# Altium schematic symbol library 2020-10-16_08-36-01.SchLib: 2 symbols
Pins are listed as number, name and electrical type; pins without a type are passive.

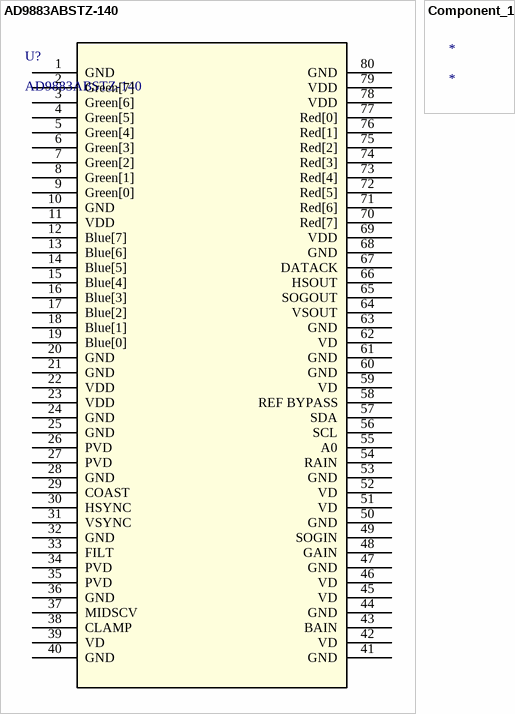
[diagram p0: symbols AD9883ABSTZ-140 to Component_1]

## AD9883ABSTZ-140
designator U?
No Description Available; Built_By: EMA_UL_Team; Vendor: Analog Devices Inc; SourceLibrary: Analog_2012-01-01_6; Manufacturer_Part_Number: AD9883ABSTZ-140; Copyright: Copyright (C) 2018 Accelerated Designs. All rights reserved; RefDes: RefDes; Type: DEV
footprint ST_80_2_ADI
pins: 1 GND, 2 Green[7], 3 Green[6], 4 Green[5], 5 Green[4], 6 Green[3], 7 Green[2], 8 Green[1], 9 Green[0], 10 GND, 11 VDD (power), 12 Blue[7], 13 Blue[6], 14 Blue[5], 15 Blue[4], 16 Blue[3], 17 Blue[2], 18 Blue[1], 19 Blue[0], 20 GND, 21 GND, 22 VDD (power), 23 VDD (power), 24 GND, 25 GND, 26 PVD (power), 27 PVD (power), 28 GND, 29 COAST, 30 HSYNC, 31 VSYNC, 32 GND, 33 FILT, 34 PVD (power), 35 PVD (power), 36 GND, 37 MIDSCV, 38 CLAMP, 39 VD (power), 40 GND, 41 GND, 42 VD (power), 43 BAIN, 44 GND, 45 VD (power), 46 VD (power), 47 GND, 48 GAIN, 49 SOGIN, 50 GND, 51 VD (power), 52 VD (power), 53 GND, 54 RAIN, 55 A0, 56 SCL, 57 SDA, 58 REF BYPASS, 59 VD (power), 60 GND, 61 GND, 62 VD (power), 63 GND, 64 VSOUT, 65 SOGOUT, 66 HSOUT, 67 DATACK, 68 GND, 69 VDD (power), 70 Red[7], 71 Red[6], 72 Red[5], 73 Red[4], 74 Red[3], 75 Red[2], 76 Red[1], 77 Red[0], 78 VDD (power), 79 VDD (power), 80 GND

## Component_1
designator *